# EAGLE library part A000066 (library ArduinoUno)
Microcontroller board, Uno [Arduino] A000066 Microcontroller board, Uno 7640152110092 Check prices <https://pricing.snapeda.com/parts/A000066/Arduino/view-part?ref=eda> Check prices <https://pricing.snapeda.com/parts/A000066/Arduino/view-part?ref=eda> Check availability <https://pricing.snapeda.com/parts/ARDUINO%20UNO%20REV3/Arduino/view-part?ref=eda>
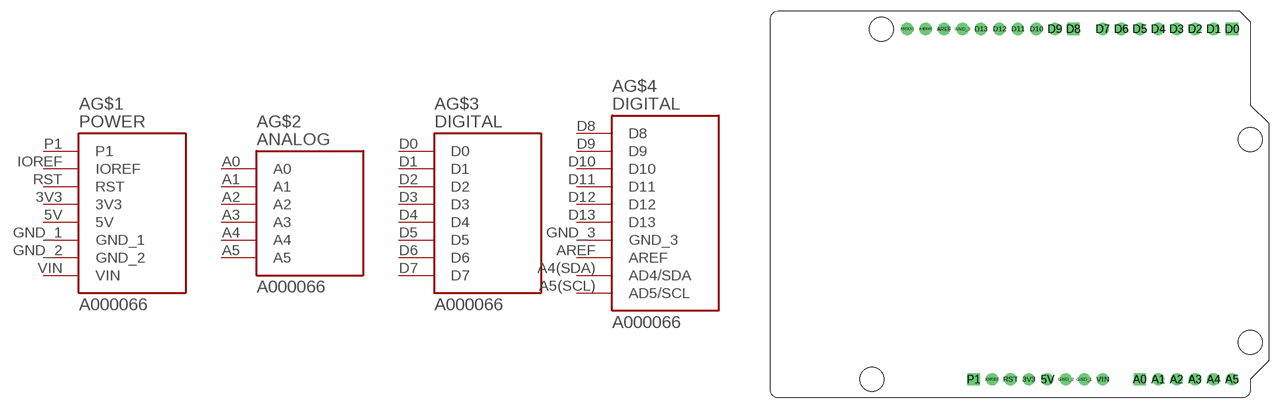
[diagram p0: symbol with the pads of ARDUINO_A000066; footprint ARDUINO_A000066]

Designator prefix A; gates G$1=A000066_POWER G$2=A000066_ANALOG G$3=A000066_IOL G$4=A000066_IOH

## A000066 (Availability: Not in stock; Description: Microcontroller board based on the ATmega328P.; MF: Arduino; MP: ARDUINO UNO REV3; Package: Non-Standard Arduino; Price: None)  [ARDUINO_A000066]
3V3  G$1:3V3  pwr
5V  G$1:5V  pwr
A0  G$2:A0
A1  G$2:A1
A2  G$2:A2
A3  G$2:A3
A4  G$2:A4
A4(SDA)  G$4:AD4/SDA
A5  G$2:A5
A5(SCL)  G$4:AD5/SCL
AREF  G$4:AREF
D0  G$3:D0
D1  G$3:D1
D2  G$3:D2
D3  G$3:D3
D4  G$3:D4
D5  G$3:D5
D6  G$3:D6
D7  G$3:D7
D8  G$4:D8
D9  G$4:D9
D10  G$4:D10
D11  G$4:D11
D12  G$4:D12
D13  G$4:D13
GND_1  G$1:GND_1  pwr
GND_2  G$1:GND_2  pwr
GND_3  G$4:GND_3  pwr
IOREF  G$1:IOREF
P1  G$1:P1
RST  G$1:RST
VIN  G$1:VIN  pwr

## Footprint ARDUINO_A000066 (pad centres in mm)
drill 1.016 pad 1.676: 3V3 35.56,2.54; 5V 38.1,2.54; A1 53.34,2.54; A2 55.88,2.54; A3 58.42,2.54; A4 60.96,2.54; A4(SDA) 21.336,50.8; A5 63.5,2.54; A5(SCL) 18.796,50.8; AREF 23.876,50.8; D1 60.96,50.8; D2 58.42,50.8; D3 55.88,50.8; D4 53.34,50.8; D5 50.8,50.8; D6 48.26,50.8; D7 45.72,50.8; D9 39.116,50.8; D10 36.576,50.8; D11 34.036,50.8; D12 31.496,50.8; D13 28.956,50.8; GND_1 43.18,2.54; GND_2 40.64,2.54; GND_3 26.416,50.8; IOREF 30.48,2.54; RST 33.02,2.54; VIN 45.72,2.54
drill 1.016 pad 1.676 square: A0 50.8,2.54; D0 63.5,50.8; D8 41.656,50.8; P1 27.94,2.54
hole 3.3 at 66.04,35.56
hole 3.3 at 66.04,7.62
hole 3.3 at 15.24,50.8
hole 3.3 at 13.97,2.54